# Altium schematic symbol library mva_Connector.SchLib: 6 symbols
Pins are listed as number, name and electrical type; pins without a type are passive.

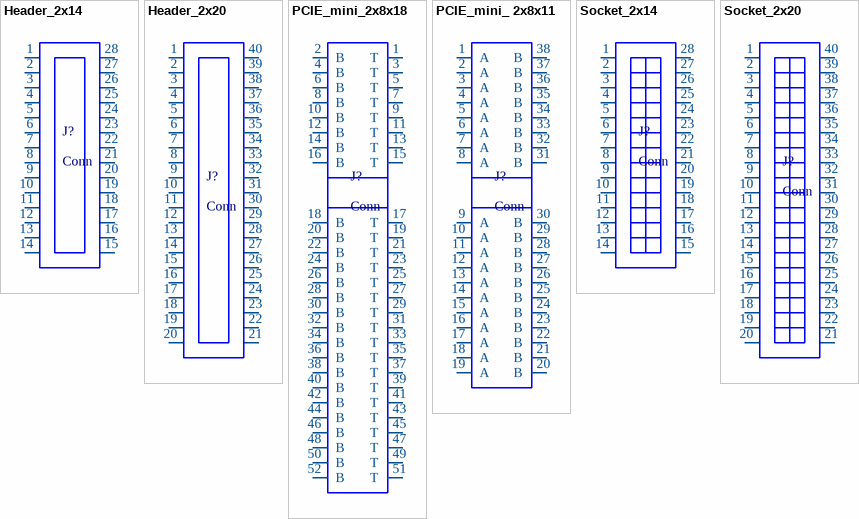
[diagram p0: symbols Header_2x14 to Socket_2x20]

## Header_2x14
designator J?, comment Conn
Connector header male 2x14 pin.
footprint Header_SMD_P2.0_2x14
pins: 1, 2, 3, 4, 5, 6, 7, 8, 9, 10, 11, 12, 13, 14, 15, 16, 17, 18, 19, 20, 21, 22, 23, 24, 25, 26, 27, 28

## Header_2x20
designator J?, comment Conn
Connector header male 2x20 pin.
pins: 1, 2, 3, 4, 5, 6, 7, 8, 9, 10, 11, 12, 13, 14, 15, 16, 17, 18, 19, 20, 21, 22, 23, 24, 25, 26, 27, 28, 29, 30, 31, 32, 33, 34, 35, 36, 37, 38, 39, 40

## PCIE_mini_2x8x18
designator J?, comment Conn
PCIExpress mini 2x8x18.
footprint PCIE_mini_2x8x18
pins: 1 T, 2 B, 3 T, 4 B, 5 T, 6 B, 7 T, 8 B, 9 T, 10 B, 11 T, 12 B, 13 T, 14 B, 15 T, 16 B, 17 T, 18 B, 19 T, 20 B, 21 T, 22 B, 23 T, 24 B, 25 T, 26 B, 27 T, 28 B, 29 T, 30 B, 31 T, 32 B, 33 T, 34 B, 35 T, 36 B, 37 T, 38 B, 39 T, 40 B, 41 T, 42 B, 43 T, 44 B, 45 T, 46 B, 47 T, 48 B, 49 T, 50 B, 51 T, 52 B

## PCIE_mini_ 2x8x11
designator J?, comment Conn
PCIExpress mini 2x8x11.
pins: 1 A, 2 A, 3 A, 4 A, 5 A, 6 A, 7 A, 8 A, 9 A, 10 A, 11 A, 12 A, 13 A, 14 A, 15 A, 16 A, 17 A, 18 A, 19 A, 20 B, 21 B, 22 B, 23 B, 24 B, 25 B, 26 B, 27 B, 28 B, 29 B, 30 B, 31 B, 32 B, 33 B, 34 B, 35 B, 36 B, 37 B, 38 B

## Socket_2x14
designator J?, comment Conn
Connector socket female 2x14 pin.
footprint Socket_SMD_P2.0_2x14
pins: 1, 2, 3, 4, 5, 6, 7, 8, 9, 10, 11, 12, 13, 14, 15, 16, 17, 18, 19, 20, 21, 22, 23, 24, 25, 26, 27, 28

## Socket_2x20
designator J?, comment Conn
Connector socket female 2x20 pin.
pins: 1, 2, 3, 4, 5, 6, 7, 8, 9, 10, 11, 12, 13, 14, 15, 16, 17, 18, 19, 20, 21, 22, 23, 24, 25, 26, 27, 28, 29, 30, 31, 32, 33, 34, 35, 36, 37, 38, 39, 40